# Altium footprint library Connector_JST.PcbLib: 558 footprints (part 8 of 35)
Each footprint in its own frame and in the unit in brackets; x right, y up, seen from the top. Pads: shape width x height; smd on the part's side, far side on the other; paste and mask are expansions set on the pad; w line width, h text height; cw(c..) or ccw(c..) is an arc to the next point about the centre after c.
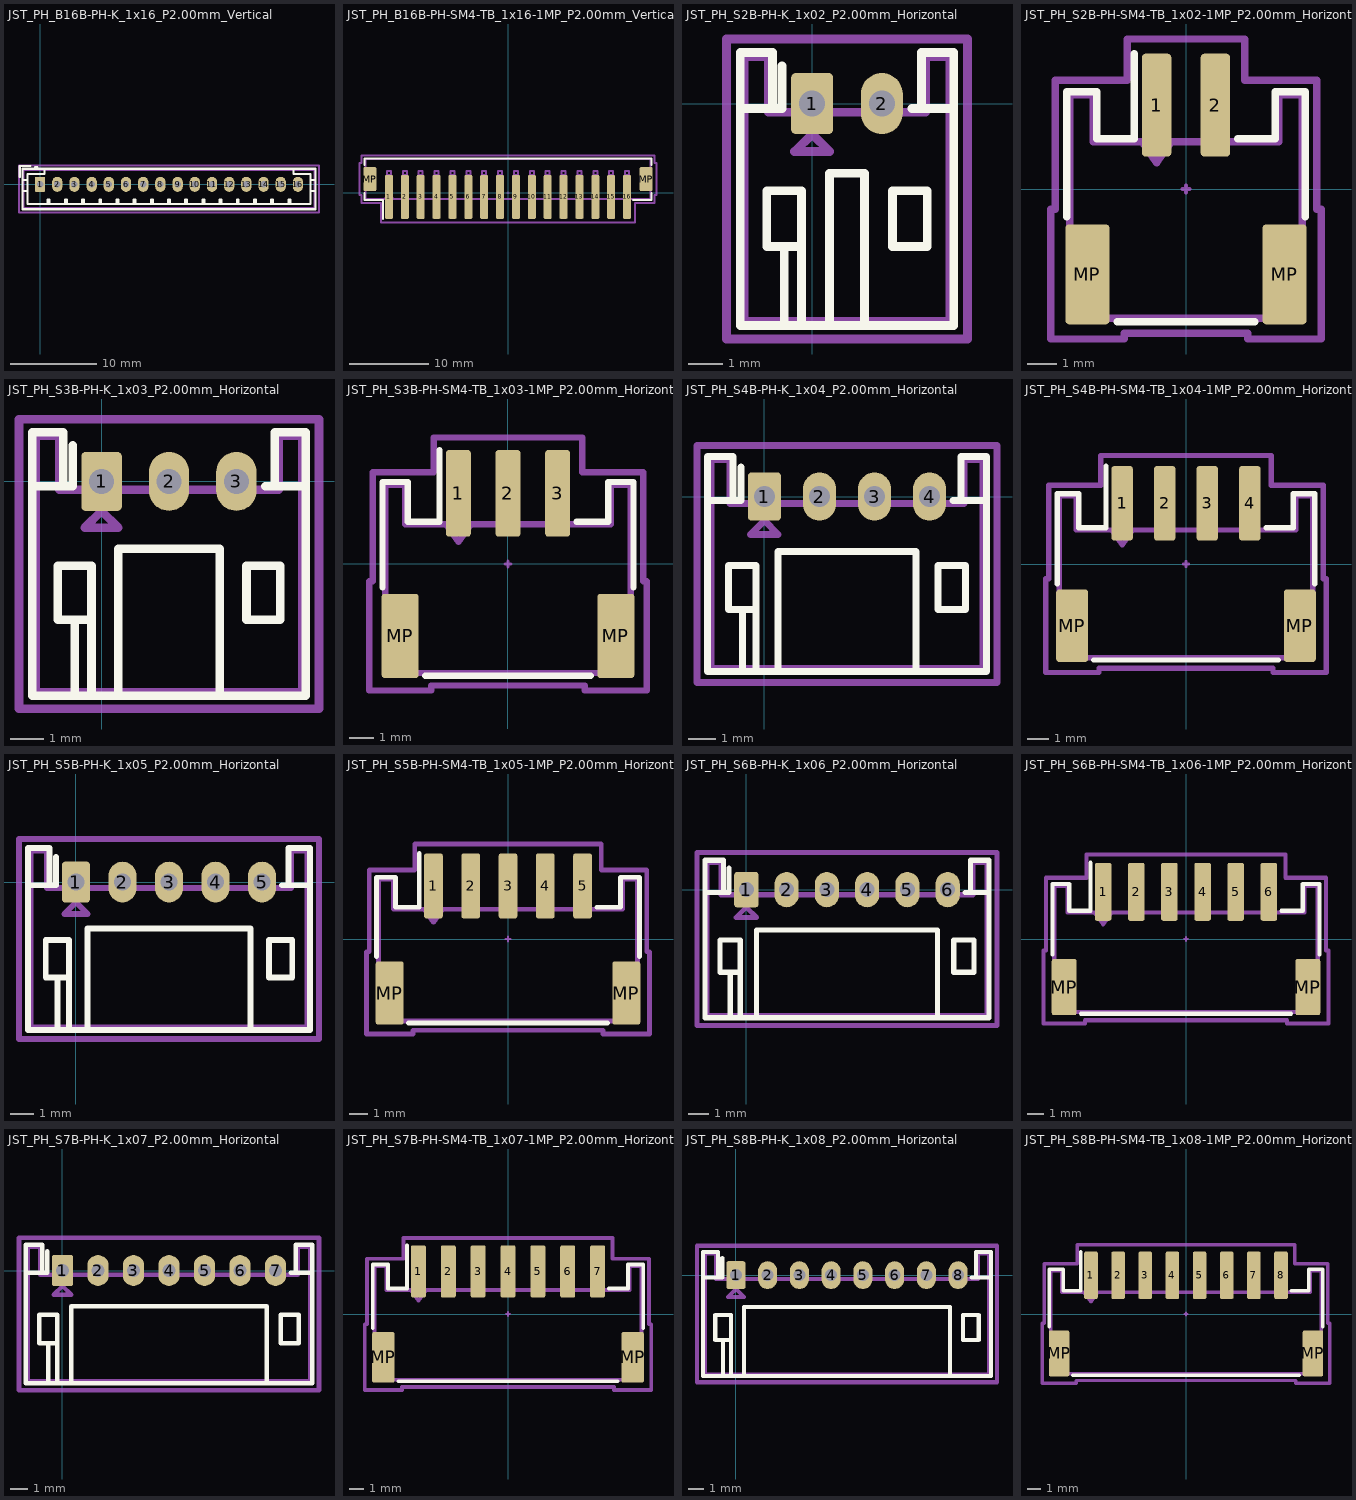
[diagram p7: the footprints below, top view; thin cyan lines are the x and y axes]

## JST_PH_B16B-PH-K_1x16_P2.00mm_Vertical [mm] "JST_PH_B16B-PH-K_1x16_P2.00mm_Vertical"
pads (16):
  rrect21% 1.2x1.75 hole 0.75: 1(0,0)
  rrect100% 1.2x1.75 hole 0.75: 2(2,0) 3(4,0) 4(6,0) 5(8,0) 6(10,0) 7(12,0) 8(14,0) 9(16,0) 10(18,0) 11(20,0) 12(22,0) 13(24,0) 14(26,0) 15(28,0) 16(30,0)
F.SilkS:
  lines w0.254: -2.36,0.86 -2.36,2.11 -1.11,2.11 ; -2.06,-0.8 -1.45,-0.8 ; -2.06,0.5 -1.45,0.5 ; -0.6,1.81 -0.6,2.01 -0.3,2.01 -0.3,1.81 ; -0.6,1.91 -0.3,1.91 ; 0.5,1.81 0.5,1.2 -1.45,1.2 -1.45,-2.3 31.45,-2.3 31.45,1.2 29.5,1.2 29.5,1.81 ; 0.9,-2.3 0.9,-1.8 1.1,-1.8 1.1,-2.3 ; 1,-2.3 1,-1.8 ; 2.9,-2.3 2.9,-1.8 3.1,-1.8 3.1,-2.3 ; 3,-2.3 3,-1.8 ; 4.9,-2.3 4.9,-1.8 5.1,-1.8 5.1,-2.3 ; 5,-2.3 5,-1.8 ; 6.9,-2.3 6.9,-1.8 7.1,-1.8 7.1,-2.3 ; 7,-2.3 7,-1.8 ; 8.9,-2.3 8.9,-1.8 9.1,-1.8 9.1,-2.3 ; 9,-2.3 9,-1.8 ; 10.9,-2.3 10.9,-1.8 11.1,-1.8 11.1,-2.3 ; 11,-2.3 11,-1.8 ; 12.9,-2.3 12.9,-1.8 13.1,-1.8 13.1,-2.3 ; 13,-2.3 13,-1.8 ; 14.9,-2.3 14.9,-1.8 15.1,-1.8 15.1,-2.3 ; 15,-2.3 15,-1.8 ; 16.9,-2.3 16.9,-1.8 17.1,-1.8 17.1,-2.3 ; 17,-2.3 17,-1.8 ; 18.9,-2.3 18.9,-1.8 19.1,-1.8 19.1,-2.3 ; 19,-2.3 19,-1.8 ; 20.9,-2.3 20.9,-1.8 21.1,-1.8 21.1,-2.3 ; 21,-2.3 21,-1.8 ; 22.9,-2.3 22.9,-1.8 23.1,-1.8 23.1,-2.3 ; 23,-2.3 23,-1.8 ; 24.9,-2.3 24.9,-1.8 25.1,-1.8 25.1,-2.3 ; 25,-2.3 25,-1.8 ; 26.9,-2.3 26.9,-1.8 27.1,-1.8 27.1,-2.3 ; 27,-2.3 27,-1.8 ; 28.9,-2.3 28.9,-1.8 29.1,-1.8 29.1,-2.3 ; 29,-2.3 29,-1.8 ; 31.45,-0.8 32.06,-0.8 ; 31.45,0.5 32.06,0.5 ; -2.06,-2.91 -2.06,1.81 32.06,1.81 32.06,-2.91 -2.06,-2.91
Top Component Center:
  lines w0.127: -0.127,0 0.127,0 ; 0,-0.127 0,0.127
Top Assembly:
  lines w0.254: -2.36,0.86 -2.36,2.11 -1.11,2.11 ; -1.95,-2.8 -1.95,1.7 31.95,1.7 31.95,-2.8 -1.95,-2.8
Top Courtyard:
  lines w0.254: -2.45,-3.3 -2.45,2.2 32.45,2.2 32.45,-3.3 -2.45,-3.3
Top Designator:
  text ".Designator" at 11.175,0.799 h1.52
3D body "JST_PH_B16B-PH-K_1x16_P2.00mm_Vertical.step": height 6, standoff -3.4, extent -1.95,-2.8 31.95,1.75

## JST_PH_B16B-PH-SM4-TB_1x16-1MP_P2.00mm_Vertical [mm] "JST_PH_B16B-PH-SM4-TB_1x16-1MP_P2.00mm_Vertical"
pads (18):
  rrect25% 1x5.5 smd: 1(-15,-0.5) 2(-13,-0.5) 3(-11,-0.5) 4(-9,-0.5) 5(-7,-0.5) 6(-5,-0.5) 7(-3,-0.5) 8(-1,-0.5) 9(1,-0.5) 10(3,-0.5) 11(5,-0.5) 12(7,-0.5) 13(9,-0.5) 14(11,-0.5) 15(13,-0.5) 16(15,-0.5)
  rrect16% 1.6x3 smd: MP(-17.4,1.75) MP(17.4,1.75)
F.SilkS:
  lines w0.254: -18.085,-0.01 -18.085,-0.86 -15.76,-0.86 -15.76,-3.25 ; -18.085,3.51 -18.085,4.36 18.085,4.36 18.085,3.51 ; 15.76,-0.86 18.085,-0.86 18.085,-0.01
Top Component Center:
  lines w0.127: -0.127,0 0.127,0 ; 0,-0.127 0,0.127
Top Assembly:
  lines w0.254: -15.5,-0.75 -15,-0.043 -14.5,-0.75 ; -17.975,-0.75 -17.975,4.25 17.975,4.25 17.975,-0.75 -17.975,-0.75 ; -15.25,2.25 -15.25,2.75 -14.75,2.75 -14.75,2.25 -15.25,2.25 ; -13.25,2.25 -13.25,2.75 -12.75,2.75 -12.75,2.25 -13.25,2.25 ; -11.25,2.25 -11.25,2.75 -10.75,2.75 -10.75,2.25 -11.25,2.25 ; -9.25,2.25 -9.25,2.75 -8.75,2.75 -8.75,2.25 -9.25,2.25 ; -7.25,2.25 -7.25,2.75 -6.75,2.75 -6.75,2.25 -7.25,2.25 ; -5.25,2.25 -5.25,2.75 -4.75,2.75 -4.75,2.25 -5.25,2.25 ; -3.25,2.25 -3.25,2.75 -2.75,2.75 -2.75,2.25 -3.25,2.25 ; -1.25,2.25 -1.25,2.75 -0.75,2.75 -0.75,2.25 -1.25,2.25 ; 0.75,2.25 0.75,2.75 1.25,2.75 1.25,2.25 0.75,2.25 ; 2.75,2.25 2.75,2.75 3.25,2.75 3.25,2.25 2.75,2.25 ; 4.75,2.25 4.75,2.75 5.25,2.75 5.25,2.25 4.75,2.25 ; 6.75,2.25 6.75,2.75 7.25,2.75 7.25,2.25 6.75,2.25 ; 8.75,2.25 8.75,2.75 9.25,2.75 9.25,2.25 8.75,2.25 ; 10.75,2.25 10.75,2.75 11.25,2.75 11.25,2.25 10.75,2.25 ; 12.75,2.25 12.75,2.75 13.25,2.75 13.25,2.25 12.75,2.25 ; 14.75,2.25 14.75,2.75 15.25,2.75 15.25,2.25 14.75,2.25
Top Courtyard:
  lines w0.254: -18.7,-0.25 -18.7,3.75 -18.48,3.75 -18.48,4.75 18.48,4.75 18.48,3.75 18.7,3.75 18.7,-0.25 18.48,-0.25 18.48,-1.25 16,-1.25 16,-3.75 -16,-3.75 -16,-1.25 -18.48,-1.25 -18.48,-0.25 -18.7,-0.25
Top Designator:
  text ".Designator" at -3.303,3.085 h1.52

## JST_PH_S2B-PH-K_1x02_P2.00mm_Horizontal [mm] "JST_PH_S2B-PH-K_1x02_P2.00mm_Horizontal"
pads (2):
  rrect21% 1.2x1.75 hole 0.75: 1(0,0)
  rrect100% 1.2x1.75 hole 0.75: 2(2,0)
F.SilkS:
  lines w0.254: -2.06,-0.14 -1.14,-0.14 ; -0.86,1.075 -0.86,-0.14 -1.14,-0.14 ; -0.8,-6.36 -0.8,-4.1 ; -0.3,-6.36 -0.3,-4.1 ; 0.5,-6.36 0.5,-2 1.5,-2 1.5,-6.36 ; 2.86,-0.14 3.14,-0.14 ; 4.06,-0.14 3.14,-0.14 ; -1.14,-0.14 -1.14,1.46 -2.06,1.46 -2.06,-6.36 4.06,-6.36 4.06,1.46 3.14,1.46 3.14,-0.14 ; -0.3,-4.1 -0.3,-2.5 -1.3,-2.5 -1.3,-4.1 -0.3,-4.1 ; 2.3,-4.1 3.3,-4.1 3.3,-2.5 2.3,-2.5 2.3,-4.1
Top Component Center:
  lines w0.127: -0.127,0 0.127,0 ; 0,-0.127 0,0.127
Top Assembly:
  lines w0.254: -1.95,-6.25 3.95,-6.25 3.95,1.35 3.25,1.35 3.25,-0.25 -1.25,-0.25 -1.25,1.35 -1.95,1.35 -1.95,-6.25 ; -0.5,-1.375 0,-0.875 0.5,-1.375 -0.5,-1.375
Top Courtyard:
  lines w0.254: -2.45,-6.75 4.45,-6.75 4.45,1.85 -2.45,1.85 -2.45,-6.75
Top Designator:
  text ".Designator" at -2.414,-1.741 h1.52
3D body "JST_PH_S2B-PH-K_1x02_P2.00mm_Horizontal.step": height 4.85, standoff -3.4, extent -1.95,-6.25 3.95,1.35

## JST_PH_S2B-PH-SM4-TB_1x02-1MP_P2.00mm_Horizontal [mm] "JST_PH_S2B-PH-SM4-TB_1x02-1MP_P2.00mm_Horizontal"
pads (4):
  rrect25% 1x3.5 smd: 1(-1,2.85) 2(1,2.85)
  rrect17% 1.5x3.4 smd: MP(-3.35,-2.9) MP(3.35,-2.9)
F.SilkS:
  lines w0.254: -4.06,-0.94 -4.06,3.31 -3.04,3.31 -3.04,1.71 -1.76,1.71 -1.76,4.6 ; -2.34,-4.51 2.34,-4.51 ; 1.76,1.71 3.04,1.71 3.04,3.31 4.06,3.31 4.06,-0.94
Top Component Center:
  lines w0.127: -0.127,0 0.127,0 ; 0,-0.127 0,0.127
Top Assembly:
  lines w0.254: -1.5,1.6 -1,0.893 -0.5,1.6 ; -3.95,-4.4 3.95,-4.4 3.95,3.2 3.15,3.2 3.15,1.6 -3.15,1.6 -3.15,3.2 -3.95,3.2 -3.95,-4.4
Top Courtyard:
  lines w0.254: -4.6,-5.1 -2.1,-5.1 -2.1,-4.9 2.1,-4.9 2.1,-5.1 4.6,-5.1 4.6,-0.69 4.45,-0.69 4.45,3.7 2,3.7 2,5.1 -2,5.1 -2,3.7 -4.45,3.7 -4.45,-0.69 -4.6,-0.69 -4.6,-5.1
Top Designator:
  text ".Designator" at -3.43,-0.344 h1.52

## JST_PH_S3B-PH-K_1x03_P2.00mm_Horizontal [mm] "JST_PH_S3B-PH-K_1x03_P2.00mm_Horizontal"
pads (3):
  rrect21% 1.2x1.75 hole 0.75: 1(0,0)
  rrect100% 1.2x1.75 hole 0.75: 2(2,0) 3(4,0)
F.SilkS:
  lines w0.254: -2.06,-0.14 -1.14,-0.14 ; -0.86,1.075 -0.86,-0.14 -1.14,-0.14 ; -0.8,-6.36 -0.8,-4.1 ; -0.3,-6.36 -0.3,-4.1 ; 0.5,-6.36 0.5,-2 3.5,-2 3.5,-6.36 ; 4.86,-0.14 5.14,-0.14 ; 6.06,-0.14 5.14,-0.14 ; -1.14,-0.14 -1.14,1.46 -2.06,1.46 -2.06,-6.36 6.06,-6.36 6.06,1.46 5.14,1.46 5.14,-0.14 ; -0.3,-4.1 -0.3,-2.5 -1.3,-2.5 -1.3,-4.1 -0.3,-4.1 ; 4.3,-4.1 5.3,-4.1 5.3,-2.5 4.3,-2.5 4.3,-4.1
Top Component Center:
  lines w0.127: -0.127,0 0.127,0 ; 0,-0.127 0,0.127
Top Assembly:
  lines w0.254: -1.95,-6.25 5.95,-6.25 5.95,1.35 5.25,1.35 5.25,-0.25 -1.25,-0.25 -1.25,1.35 -1.95,1.35 -1.95,-6.25 ; -0.5,-1.375 0,-0.875 0.5,-1.375 -0.5,-1.375
Top Courtyard:
  lines w0.254: -2.45,-6.75 6.45,-6.75 6.45,1.85 -2.45,1.85 -2.45,-6.75
Top Designator:
  text ".Designator" at -1.525,-1.868 h1.52
3D body "JST_PH_S3B-PH-K_1x03_P2.00mm_Horizontal.step": height 4.85, standoff -3.4, extent -1.95,-6.25 5.95,1.35

## JST_PH_S3B-PH-SM4-TB_1x03-1MP_P2.00mm_Horizontal [mm] "JST_PH_S3B-PH-SM4-TB_1x03-1MP_P2.00mm_Horizontal"
pads (5):
  rrect25% 1x3.5 smd: 1(-2,2.85) 2(0,2.85) 3(2,2.85)
  rrect17% 1.5x3.4 smd: MP(-4.35,-2.9) MP(4.35,-2.9)
F.SilkS:
  lines w0.254: -5.06,-0.94 -5.06,3.31 -4.04,3.31 -4.04,1.71 -2.76,1.71 -2.76,4.6 ; -3.34,-4.51 3.34,-4.51 ; 2.76,1.71 4.04,1.71 4.04,3.31 5.06,3.31 5.06,-0.94
Top Component Center:
  lines w0.127: -0.127,0 0.127,0 ; 0,-0.127 0,0.127
Top Assembly:
  lines w0.254: -2.5,1.6 -2,0.893 -1.5,1.6 ; -4.95,-4.4 4.95,-4.4 4.95,3.2 4.15,3.2 4.15,1.6 -4.15,1.6 -4.15,3.2 -4.95,3.2 -4.95,-4.4
Top Courtyard:
  lines w0.254: -5.6,-5.1 -3.09,-5.1 -3.09,-4.9 3.09,-4.9 3.09,-5.1 5.6,-5.1 5.6,-0.69 5.45,-0.69 5.45,3.7 3,3.7 3,5.1 -3,5.1 -3,3.7 -5.45,3.7 -5.45,-0.69 -5.6,-0.69 -5.6,-5.1
Top Designator:
  text ".Designator" at -3.43,-0.344 h1.52

## JST_PH_S4B-PH-K_1x04_P2.00mm_Horizontal [mm] "JST_PH_S4B-PH-K_1x04_P2.00mm_Horizontal"
pads (4):
  rrect21% 1.2x1.75 hole 0.75: 1(0,0)
  rrect100% 1.2x1.75 hole 0.75: 2(2,0) 3(4,0) 4(6,0)
F.SilkS:
  lines w0.254: -2.06,-0.14 -1.14,-0.14 ; -0.86,1.075 -0.86,-0.14 -1.14,-0.14 ; -0.8,-6.36 -0.8,-4.1 ; -0.3,-6.36 -0.3,-4.1 ; 0.5,-6.36 0.5,-2 5.5,-2 5.5,-6.36 ; 6.86,-0.14 7.14,-0.14 ; 8.06,-0.14 7.14,-0.14 ; -1.14,-0.14 -1.14,1.46 -2.06,1.46 -2.06,-6.36 8.06,-6.36 8.06,1.46 7.14,1.46 7.14,-0.14 ; -0.3,-4.1 -0.3,-2.5 -1.3,-2.5 -1.3,-4.1 -0.3,-4.1 ; 6.3,-4.1 7.3,-4.1 7.3,-2.5 6.3,-2.5 6.3,-4.1
Top Component Center:
  lines w0.127: -0.127,0 0.127,0 ; 0,-0.127 0,0.127
Top Assembly:
  lines w0.254: -1.95,-6.25 7.95,-6.25 7.95,1.35 7.25,1.35 7.25,-0.25 -1.25,-0.25 -1.25,1.35 -1.95,1.35 -1.95,-6.25 ; -0.5,-1.375 0,-0.875 0.5,-1.375 -0.5,-1.375
Top Courtyard:
  lines w0.254: -2.45,-6.75 8.45,-6.75 8.45,1.85 -2.45,1.85 -2.45,-6.75
Top Designator:
  text ".Designator" at -0.382,-1.741 h1.52
3D body "JST_PH_S4B-PH-K_1x04_P2.00mm_Horizontal.step": height 4.85, standoff -3.4, extent -1.95,-6.25 7.95,1.35

## JST_PH_S4B-PH-SM4-TB_1x04-1MP_P2.00mm_Horizontal [mm] "JST_PH_S4B-PH-SM4-TB_1x04-1MP_P2.00mm_Horizontal"
pads (6):
  rrect25% 1x3.5 smd: 1(-3,2.85) 2(-1,2.85) 3(1,2.85) 4(3,2.85)
  rrect17% 1.5x3.4 smd: MP(-5.35,-2.9) MP(5.35,-2.9)
F.SilkS:
  lines w0.254: -6.06,-0.94 -6.06,3.31 -5.04,3.31 -5.04,1.71 -3.76,1.71 -3.76,4.6 ; -4.34,-4.51 4.34,-4.51 ; 3.76,1.71 5.04,1.71 5.04,3.31 6.06,3.31 6.06,-0.94
Top Component Center:
  lines w0.127: -0.127,0 0.127,0 ; 0,-0.127 0,0.127
Top Assembly:
  lines w0.254: -3.5,1.6 -3,0.893 -2.5,1.6 ; -5.95,-4.4 5.95,-4.4 5.95,3.2 5.15,3.2 5.15,1.6 -5.15,1.6 -5.15,3.2 -5.95,3.2 -5.95,-4.4
Top Courtyard:
  lines w0.254: -6.6,-5.1 -4.09,-5.1 -4.09,-4.9 4.09,-4.9 4.09,-5.1 6.6,-5.1 6.6,-0.69 6.45,-0.69 6.45,3.7 4,3.7 4,5.1 -4,5.1 -4,3.7 -6.45,3.7 -6.45,-0.69 -6.6,-0.69 -6.6,-5.1
Top Designator:
  text ".Designator" at -3.43,-0.344 h1.52

## JST_PH_S5B-PH-K_1x05_P2.00mm_Horizontal [mm] "JST_PH_S5B-PH-K_1x05_P2.00mm_Horizontal"
pads (5):
  rrect21% 1.2x1.75 hole 0.75: 1(0,0)
  rrect100% 1.2x1.75 hole 0.75: 2(2,0) 3(4,0) 4(6,0) 5(8,0)
F.SilkS:
  lines w0.254: -2.06,-0.14 -1.14,-0.14 ; -0.86,1.075 -0.86,-0.14 -1.14,-0.14 ; -0.8,-6.36 -0.8,-4.1 ; -0.3,-6.36 -0.3,-4.1 ; 0.5,-6.36 0.5,-2 7.5,-2 7.5,-6.36 ; 8.86,-0.14 9.14,-0.14 ; 10.06,-0.14 9.14,-0.14 ; -1.14,-0.14 -1.14,1.46 -2.06,1.46 -2.06,-6.36 10.06,-6.36 10.06,1.46 9.14,1.46 9.14,-0.14 ; -0.3,-4.1 -0.3,-2.5 -1.3,-2.5 -1.3,-4.1 -0.3,-4.1 ; 8.3,-4.1 9.3,-4.1 9.3,-2.5 8.3,-2.5 8.3,-4.1
Top Component Center:
  lines w0.127: -0.127,0 0.127,0 ; 0,-0.127 0,0.127
Top Assembly:
  lines w0.254: -1.95,-6.25 9.95,-6.25 9.95,1.35 9.25,1.35 9.25,-0.25 -1.25,-0.25 -1.25,1.35 -1.95,1.35 -1.95,-6.25 ; -0.5,-1.375 0,-0.875 0.5,-1.375 -0.5,-1.375
Top Courtyard:
  lines w0.254: -2.45,-6.75 10.45,-6.75 10.45,1.85 -2.45,1.85 -2.45,-6.75
Top Designator:
  text ".Designator" at 0.507,-4.662 h1.52
3D body "JST_PH_S5B-PH-K_1x05_P2.00mm_Horizontal.step": height 4.85, standoff -3.4, extent -1.95,-6.25 9.95,1.35

## JST_PH_S5B-PH-SM4-TB_1x05-1MP_P2.00mm_Horizontal [mm] "JST_PH_S5B-PH-SM4-TB_1x05-1MP_P2.00mm_Horizontal"
pads (7):
  rrect25% 1x3.5 smd: 1(-4,2.85) 2(-2,2.85) 3(0,2.85) 4(2,2.85) 5(4,2.85)
  rrect17% 1.5x3.4 smd: MP(-6.35,-2.9) MP(6.35,-2.9)
F.SilkS:
  lines w0.254: -7.06,-0.94 -7.06,3.31 -6.04,3.31 -6.04,1.71 -4.76,1.71 -4.76,4.6 ; -5.34,-4.51 5.34,-4.51 ; 4.76,1.71 6.04,1.71 6.04,3.31 7.06,3.31 7.06,-0.94
Top Component Center:
  lines w0.127: -0.127,0 0.127,0 ; 0,-0.127 0,0.127
Top Assembly:
  lines w0.254: -4.5,1.6 -4,0.893 -3.5,1.6 ; -6.95,-4.4 6.95,-4.4 6.95,3.2 6.15,3.2 6.15,1.6 -6.15,1.6 -6.15,3.2 -6.95,3.2 -6.95,-4.4
Top Courtyard:
  lines w0.254: -7.6,-5.1 -5.1,-5.1 -5.1,-4.9 5.1,-4.9 5.1,-5.1 7.6,-5.1 7.6,-0.69 7.45,-0.69 7.45,3.7 5,3.7 5,5.1 -5,5.1 -5,3.7 -7.45,3.7 -7.45,-0.69 -7.6,-0.69 -7.6,-5.1
Top Designator:
  text ".Designator" at -3.43,-0.344 h1.52

## JST_PH_S6B-PH-K_1x06_P2.00mm_Horizontal [mm] "JST_PH_S6B-PH-K_1x06_P2.00mm_Horizontal"
pads (6):
  rrect21% 1.2x1.75 hole 0.75: 1(0,0)
  rrect100% 1.2x1.75 hole 0.75: 2(2,0) 3(4,0) 4(6,0) 5(8,0) 6(10,0)
F.SilkS:
  lines w0.254: -2.06,-0.14 -1.14,-0.14 ; -0.86,1.075 -0.86,-0.14 -1.14,-0.14 ; -0.8,-6.36 -0.8,-4.1 ; -0.3,-6.36 -0.3,-4.1 ; 0.5,-6.36 0.5,-2 9.5,-2 9.5,-6.36 ; 10.86,-0.14 11.14,-0.14 ; 12.06,-0.14 11.14,-0.14 ; -1.14,-0.14 -1.14,1.46 -2.06,1.46 -2.06,-6.36 12.06,-6.36 12.06,1.46 11.14,1.46 11.14,-0.14 ; -0.3,-4.1 -0.3,-2.5 -1.3,-2.5 -1.3,-4.1 -0.3,-4.1 ; 10.3,-4.1 11.3,-4.1 11.3,-2.5 10.3,-2.5 10.3,-4.1
Top Component Center:
  lines w0.127: -0.127,0 0.127,0 ; 0,-0.127 0,0.127
Top Assembly:
  lines w0.254: -1.95,-6.25 11.95,-6.25 11.95,1.35 11.25,1.35 11.25,-0.25 -1.25,-0.25 -1.25,1.35 -1.95,1.35 -1.95,-6.25 ; -0.5,-1.375 0,-0.875 0.5,-1.375 -0.5,-1.375
Top Courtyard:
  lines w0.254: -2.45,-6.75 12.45,-6.75 12.45,1.85 -2.45,1.85 -2.45,-6.75
Top Designator:
  text ".Designator" at 1.904,-4.408 h1.52
3D body "JST_PH_S6B-PH-K_1x06_P2.00mm_Horizontal.step": height 4.85, standoff -3.4, extent -1.95,-6.25 11.95,1.35

## JST_PH_S6B-PH-SM4-TB_1x06-1MP_P2.00mm_Horizontal [mm] "JST_PH_S6B-PH-SM4-TB_1x06-1MP_P2.00mm_Horizontal"
pads (8):
  rrect25% 1x3.5 smd: 1(-5,2.85) 2(-3,2.85) 3(-1,2.85) 4(1,2.85) 5(3,2.85) 6(5,2.85)
  rrect17% 1.5x3.4 smd: MP(-7.35,-2.9) MP(7.35,-2.9)
F.SilkS:
  lines w0.254: -8.06,-0.94 -8.06,3.31 -7.04,3.31 -7.04,1.71 -5.76,1.71 -5.76,4.6 ; -6.34,-4.51 6.34,-4.51 ; 5.76,1.71 7.04,1.71 7.04,3.31 8.06,3.31 8.06,-0.94
Top Component Center:
  lines w0.127: -0.127,0 0.127,0 ; 0,-0.127 0,0.127
Top Assembly:
  lines w0.254: -5.5,1.6 -5,0.893 -4.5,1.6 ; -7.95,-4.4 7.95,-4.4 7.95,3.2 7.15,3.2 7.15,1.6 -7.15,1.6 -7.15,3.2 -7.95,3.2 -7.95,-4.4
Top Courtyard:
  lines w0.254: -8.6,-5.1 -6.1,-5.1 -6.1,-4.9 6.1,-4.9 6.1,-5.1 8.6,-5.1 8.6,-0.69 8.45,-0.69 8.45,3.7 6,3.7 6,5.1 -6,5.1 -6,3.7 -8.45,3.7 -8.45,-0.69 -8.6,-0.69 -8.6,-5.1
Top Designator:
  text ".Designator" at -3.43,-0.344 h1.52

## JST_PH_S7B-PH-K_1x07_P2.00mm_Horizontal [mm] "JST_PH_S7B-PH-K_1x07_P2.00mm_Horizontal"
pads (7):
  rrect21% 1.2x1.75 hole 0.75: 1(0,0)
  rrect100% 1.2x1.75 hole 0.75: 2(2,0) 3(4,0) 4(6,0) 5(8,0) 6(10,0) 7(12,0)
F.SilkS:
  lines w0.254: -2.06,-0.14 -1.14,-0.14 ; -0.86,1.075 -0.86,-0.14 -1.14,-0.14 ; -0.8,-6.36 -0.8,-4.1 ; -0.3,-6.36 -0.3,-4.1 ; 0.5,-6.36 0.5,-2 11.5,-2 11.5,-6.36 ; 12.86,-0.14 13.14,-0.14 ; 14.06,-0.14 13.14,-0.14 ; -1.14,-0.14 -1.14,1.46 -2.06,1.46 -2.06,-6.36 14.06,-6.36 14.06,1.46 13.14,1.46 13.14,-0.14 ; -0.3,-4.1 -0.3,-2.5 -1.3,-2.5 -1.3,-4.1 -0.3,-4.1 ; 12.3,-4.1 13.3,-4.1 13.3,-2.5 12.3,-2.5 12.3,-4.1
Top Component Center:
  lines w0.127: -0.127,0 0.127,0 ; 0,-0.127 0,0.127
Top Assembly:
  lines w0.254: -1.95,-6.25 13.95,-6.25 13.95,1.35 13.25,1.35 13.25,-0.25 -1.25,-0.25 -1.25,1.35 -1.95,1.35 -1.95,-6.25 ; -0.5,-1.375 0,-0.875 0.5,-1.375 -0.5,-1.375
Top Courtyard:
  lines w0.254: -2.45,-6.75 14.45,-6.75 14.45,1.85 -2.45,1.85 -2.45,-6.75
Top Designator:
  text ".Designator" at 2.92,-4.281 h1.52
3D body "JST_PH_S7B-PH-K_1x07_P2.00mm_Horizontal.step": height 4.85, standoff -3.4, extent -1.95,-6.25 13.95,1.35

## JST_PH_S7B-PH-SM4-TB_1x07-1MP_P2.00mm_Horizontal [mm] "JST_PH_S7B-PH-SM4-TB_1x07-1MP_P2.00mm_Horizontal"
pads (9):
  rrect25% 1x3.5 smd: 1(-6,2.85) 2(-4,2.85) 3(-2,2.85) 4(0,2.85) 5(2,2.85) 6(4,2.85) 7(6,2.85)
  rrect17% 1.5x3.4 smd: MP(-8.35,-2.9) MP(8.35,-2.9)
F.SilkS:
  lines w0.254: -9.06,-0.94 -9.06,3.31 -8.04,3.31 -8.04,1.71 -6.76,1.71 -6.76,4.6 ; -7.34,-4.51 7.34,-4.51 ; 6.76,1.71 8.04,1.71 8.04,3.31 9.06,3.31 9.06,-0.94
Top Component Center:
  lines w0.127: -0.127,0 0.127,0 ; 0,-0.127 0,0.127
Top Assembly:
  lines w0.254: -6.5,1.6 -6,0.893 -5.5,1.6 ; -8.95,-4.4 8.95,-4.4 8.95,3.2 8.15,3.2 8.15,1.6 -8.15,1.6 -8.15,3.2 -8.95,3.2 -8.95,-4.4
Top Courtyard:
  lines w0.254: -9.6,-5.1 -7.1,-5.1 -7.1,-4.9 7.1,-4.9 7.1,-5.1 9.6,-5.1 9.6,-0.69 9.45,-0.69 9.45,3.7 7,3.7 7,5.1 -7,5.1 -7,3.7 -9.45,3.7 -9.45,-0.69 -9.6,-0.69 -9.6,-5.1
Top Designator:
  text ".Designator" at -3.43,-0.344 h1.52

## JST_PH_S8B-PH-K_1x08_P2.00mm_Horizontal [mm] "JST_PH_S8B-PH-K_1x08_P2.00mm_Horizontal"
pads (8):
  rrect21% 1.2x1.75 hole 0.75: 1(0,0)
  rrect100% 1.2x1.75 hole 0.75: 2(2,0) 3(4,0) 4(6,0) 5(8,0) 6(10,0) 7(12,0) 8(14,0)
F.SilkS:
  lines w0.254: -2.06,-0.14 -1.14,-0.14 ; -0.86,1.075 -0.86,-0.14 -1.14,-0.14 ; -0.8,-6.36 -0.8,-4.1 ; -0.3,-6.36 -0.3,-4.1 ; 0.5,-6.36 0.5,-2 13.5,-2 13.5,-6.36 ; 14.86,-0.14 15.14,-0.14 ; 16.06,-0.14 15.14,-0.14 ; -1.14,-0.14 -1.14,1.46 -2.06,1.46 -2.06,-6.36 16.06,-6.36 16.06,1.46 15.14,1.46 15.14,-0.14 ; -0.3,-4.1 -0.3,-2.5 -1.3,-2.5 -1.3,-4.1 -0.3,-4.1 ; 14.3,-4.1 15.3,-4.1 15.3,-2.5 14.3,-2.5 14.3,-4.1
Top Component Center:
  lines w0.127: -0.127,0 0.127,0 ; 0,-0.127 0,0.127
Top Assembly:
  lines w0.254: -1.95,-6.25 15.95,-6.25 15.95,1.35 15.25,1.35 15.25,-0.25 -1.25,-0.25 -1.25,1.35 -1.95,1.35 -1.95,-6.25 ; -0.5,-1.375 0,-0.875 0.5,-1.375 -0.5,-1.375
Top Courtyard:
  lines w0.254: -2.45,-6.75 16.45,-6.75 16.45,1.85 -2.45,1.85 -2.45,-6.75
Top Designator:
  text ".Designator" at 3.809,-4.154 h1.52
3D body "JST_PH_S8B-PH-K_1x08_P2.00mm_Horizontal.step": height 4.85, standoff -3.4, extent -1.95,-6.25 15.95,1.35

## JST_PH_S8B-PH-SM4-TB_1x08-1MP_P2.00mm_Horizontal [mm] "JST_PH_S8B-PH-SM4-TB_1x08-1MP_P2.00mm_Horizontal"
pads (10):
  rrect25% 1x3.5 smd: 1(-7,2.85) 2(-5,2.85) 3(-3,2.85) 4(-1,2.85) 5(1,2.85) 6(3,2.85) 7(5,2.85) 8(7,2.85)
  rrect17% 1.5x3.4 smd: MP(-9.35,-2.9) MP(9.35,-2.9)
F.SilkS:
  lines w0.254: -10.06,-0.94 -10.06,3.31 -9.04,3.31 -9.04,1.71 -7.76,1.71 -7.76,4.6 ; -8.34,-4.51 8.34,-4.51 ; 7.76,1.71 9.04,1.71 9.04,3.31 10.06,3.31 10.06,-0.94
Top Component Center:
  lines w0.127: -0.127,0 0.127,0 ; 0,-0.127 0,0.127
Top Assembly:
  lines w0.254: -7.5,1.6 -7,0.893 -6.5,1.6 ; -9.95,-4.4 -9.95,3.2 -9.15,3.2 -9.15,1.6 9.15,1.6 9.15,3.2 9.95,3.2 9.95,-4.4 -9.95,-4.4
Top Courtyard:
  lines w0.254: -10.6,-5.1 -10.6,-0.69 -10.45,-0.69 -10.45,3.7 -8,3.7 -8,5.1 8,5.1 8,3.7 10.45,3.7 10.45,-0.69 10.6,-0.69 10.6,-5.1 8.1,-5.1 8.1,-4.9 -8.1,-4.9 -8.1,-5.1 -10.6,-5.1
Top Designator:
  text ".Designator" at -3.43,-0.344 h1.52